# EAGLE library part CMX639D4 (library cml-micro)
CVSD Digital Voice Codec
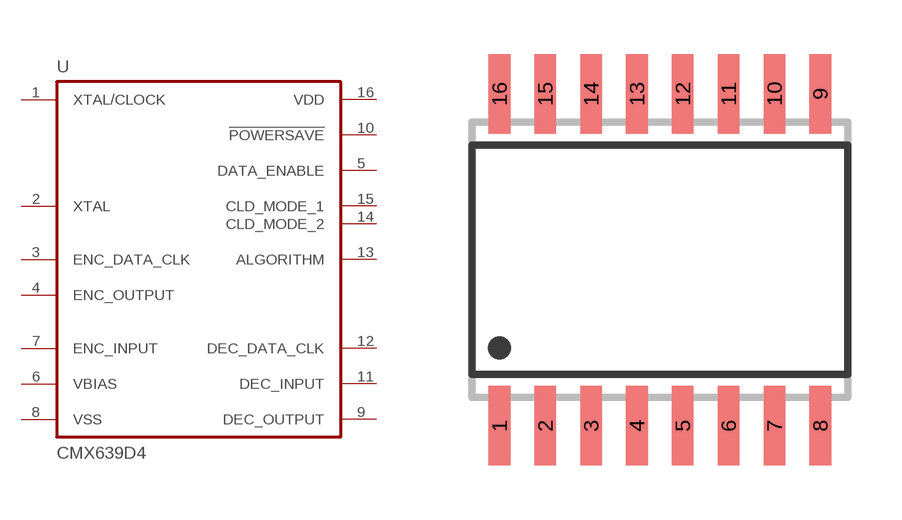
[diagram p4: symbol with the pads of SO16W; footprint SO16W]

Designator prefix U

## CMX639D4  [SO16W]
1  XTAL/CLOCK  in
2  XTAL  out
3  ENC_DATA_CLK
4  ENC_OUTPUT  out
5  DATA_ENABLE  in
6  VBIAS  in
7  ENC_INPUT  in
8  VSS  pwr
9  DEC_OUTPUT  out
10  !POWERSAVE!  in
11  DEC_INPUT  in
12  DEC_DATA_CLK
13  ALGORITHM  in
14  CLD_MODE_2  in
15  CLD_MODE_1  in
16  VDD  pwr

## Footprint SO16W (pad centres in mm)
SMALL OUTLINE INTEGRATED CIRCUIT wide body 7.5 mm/JEDEC MS-013AA
smd 0.6 x 2.2: 1 -4.445,-4.6; 2 -3.175,-4.6; 3 -1.905,-4.6; 4 -0.635,-4.6; 5 0.635,-4.6; 6 1.905,-4.6; 7 3.175,-4.6; 8 4.445,-4.6; 9 4.445,4.6; 10 3.175,4.6; 11 1.905,4.6; 12 0.635,4.6; 13 -0.635,4.6; 14 -1.905,4.6; 15 -3.175,4.6; 16 -4.445,4.6